# Altium integrated library TB005-762-03BE.IntLib: 1 symbol
Pins are listed as number, name and electrical type; pins without a type are passive.

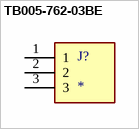
[diagram p0: symbol TB005-762-03BE]

## TB005-762-03BE
designator J?
2~24 Poles, Screw Type, Horizontal, 7.62 Pitch, 26~10 (AWG), Terminal Block Connector; MF: Same Sky; MP: TB005-762-03BE; SnapEDA_Link: https://www.snapeda.com/parts/TB005-762-03BE/Same+Sky/view-part/?ref=snap; Package: None; Value: *; Check_prices: https://www.snapeda.com/parts/TB005-762-03BE/Same+Sky/view-part/?ref=eda
footprint CUI_TB005-762-03BE
pins: 1, 2, 3